# Altium schematic symbol library philips-semiconductors.SCHLIB: 4 symbols
Pins are listed as number, name and electrical type; pins without a type are passive.

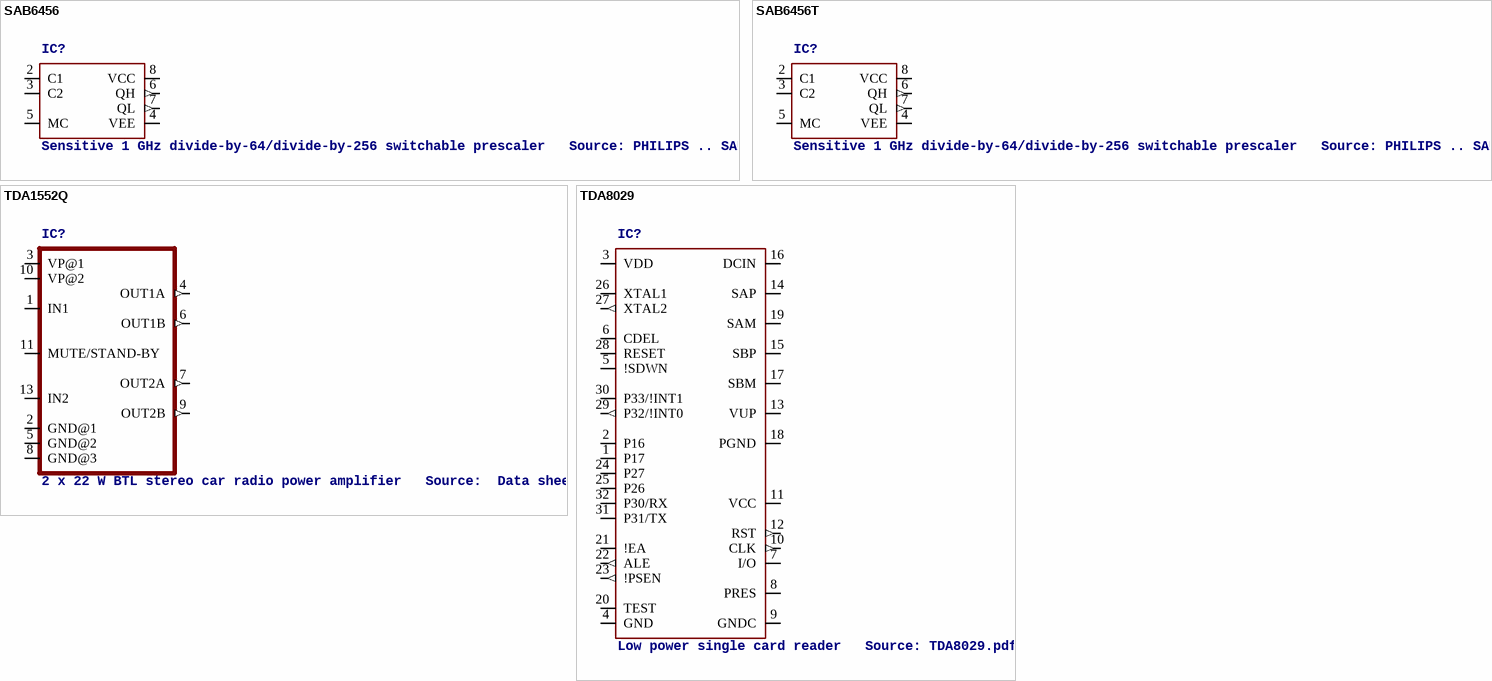
[diagram p0: symbols SAB6456 to TDA8029]

## SAB6456
designator IC?, comment Sensitive 1 GHz divide-by-64/divide-by-256 switchable prescaler   Source: PHILIPS .. SAB6456.pdf
OC_FARNELL: unknown; OC_NEWARK: unknown
footprint DIL08
pins: 2 C1, 3 C2, 4 VEE (power), 5 MC, 6 QH (out), 7 QL (out), 8 VCC (power)

## SAB6456T
designator IC?, comment Sensitive 1 GHz divide-by-64/divide-by-256 switchable prescaler   Source: PHILIPS .. SAB6456.pdf
OC_FARNELL: unknown; OC_NEWARK: unknown
footprint SO08
pins: 2 C1, 3 C2, 4 VEE (power), 5 MC, 6 QH (out), 7 QL (out), 8 VCC (power)

## TDA1552Q
designator IC?, comment 2 x 22 W BTL stereo car radio power amplifier   Source:  Data sheet
footprint MULTIWAT-SIL13
pins: 1 IN1, 2 GND@1 (power), 3 VP@1, 4 OUT1A (out), 5 GND@2 (power), 6 OUT1B (out), 7 OUT2A (out), 8 GND@3 (power), 9 OUT2B (out), 10 VP@2, 11 MUTE/STAND-BY, 13 IN2

## TDA8029
designator IC?, comment Low power single card reader   Source: TDA8029.pdf
MPN: TDA8029HL/C207,118; OC_FARNELL: unknown; OC_NEWARK: 70R9255
footprint LQFP32-7X7MM
pins: 1 P17, 2 P16, 3 VDD (power), 4 GND (power), 5 !SDWN, 6 CDEL, 7 I/O, 8 PRES, 9 GNDC, 10 CLK (out), 11 VCC, 12 RST (out), 13 VUP, 14 SAP, 15 SBP, 16 DCIN, 17 SBM, 18 PGND, 19 SAM, 20 TEST, 21 !EA, 22 ALE (out), 23 !PSEN (out), 24 P27, 25 P26, 26 XTAL1, 27 XTAL2 (out), 28 RESET, 29 P32/!INT0 (out), 30 P33/!INT1, 31 P31/TX, 32 P30/RX